# EAGLE library part FGPMMOPA6H (library GlobalTop-FGPMMOPA6H_PA6H.LIB-Eagle)
GlobalTop FGPMMO PA6H GPS Receiver by Giovanni Bernardo @ www.settorezero.com
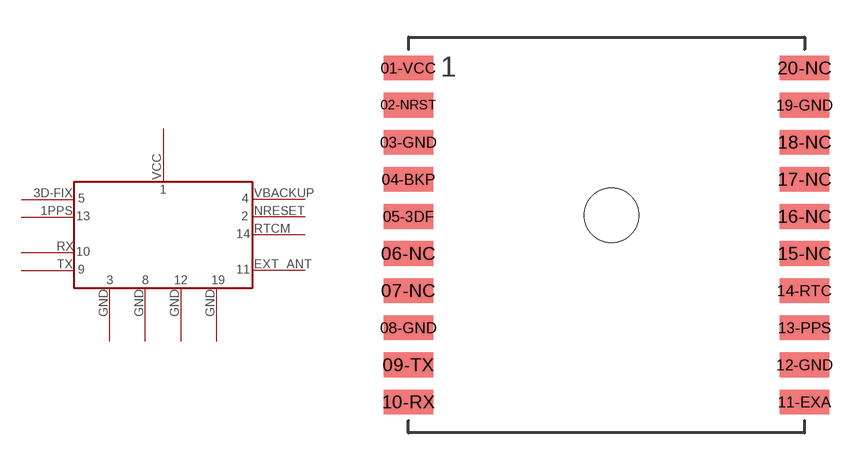
[diagram p0: symbol with the pads of FGPMMOPA6H; footprint FGPMMOPA6H]

Designator prefix -

## FGPMMOPA6H  [FGPMMOPA6H]
01-VCC  VCC  pwr
02-NRST  NRESET
03-GND  3-GND  pwr
04-BKP  VBACKUP
05-3DF  3D-FIX  out
08-GND  8-GND  pwr
09-TX  TX  out
10-RX  RX  in
11-EXA  EX_ANT
12-GND  12-GND  pwr
13-PPS  1PPS  out
14-RTC  RTCM
19-GND  19-GND  pwr

## Footprint FGPMMOPA6H (pad centres in mm)
smd 2 x 1: 01-VCC 0,-1.25; 02-NRST 0,-2.75; 03-GND 0,-4.25; 04-BKP 0,-5.75; 05-3DF 0,-7.25; 06-NC 0,-8.75; 07-NC 0,-10.25; 08-GND 0,-11.75; 09-TX 0,-13.25; 10-RX 0,-14.75; 11-EXA 16,-14.75; 12-GND 16,-13.25; 13-PPS 16,-11.75; 14-RTC 16,-10.25; 15-NC 16,-8.75; 16-NC 16,-7.25; 17-NC 16,-5.75; 18-NC 16,-4.25; 19-GND 16,-2.75; 20-NC 16,-1.25
hole 2.2 at 8.2,-7.2